# EAGLE library part FDC6301N (library RaspiOMix)
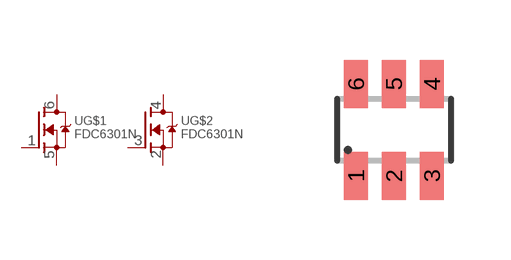
[diagram p0: symbol with the pads of SOT23-6; footprint SOT23-6]

Designator prefix -; gates G$1=N-MOSFET G$2=N-MOSFET

## FDC6301N  [SOT23-6]
1  G$1:G
2  G$2:S
3  G$2:G
4  G$2:D
5  G$1:S
6  G$1:D

## Footprint SOT23-6 (pad centres in mm)
smd 0.6 x 1.2: 1 -0.95,-1.15; 2 0,-1.15; 3 0.95,-1.15; 4 0.95,1.15; 5 0,1.15; 6 -0.95,1.15